# EAGLE library part MCP73871_CHARGEMANAGER (library DMF-AS3935_Project)
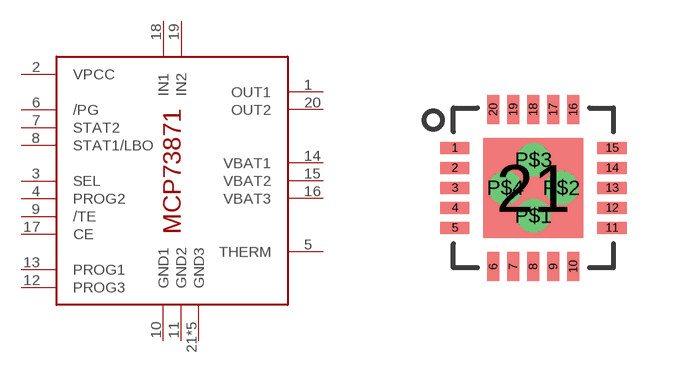
[diagram p3: symbol with the pads of QFN20_PAD; footprint QFN20_PAD]

Designator prefix U

## MCP73871_CHARGEMANAGER  [QFN20_PAD]
1  OUT1  out
2  VPCC  in
3  SEL  in
4  PROG2  in
5  THERM  in
6  /PG  out
7  STAT2  out
8  STAT1/LBO  out
9  /TE  in
10  GND1  pwr
11  GND2  pwr
12  PROG3  in
13  PROG1  in
14  VBAT1  out
15  VBAT2  out
16  VBAT3  out
17  CE  in
18  IN1  in
19  IN2  in
20  OUT2  out
21  GND3  pwr
P$1  GND3  pwr
P$2  GND3  pwr
P$3  GND3  pwr
P$4  GND3  pwr

## Footprint QFN20_PAD (pad centres in mm)
smd 0.73 x 0.3: 1 -1.965,1; 2 -1.965,0.5; 3 -1.965,0; 4 -1.965,-0.5; 5 -1.965,-1; 11 1.965,-1; 12 1.965,-0.5; 13 1.965,0; 14 1.965,0.5; 15 1.965,1
smd 0.3 x 0.73: 6 -1,-1.965; 7 -0.5,-1.965; 8 0,-1.965; 9 0.5,-1.965; 10 1,-1.965; 16 1,1.965; 17 0.5,1.965; 18 0,1.965; 19 -0.5,1.965; 20 -1,1.965
smd 2.5 x 2.5: 21 0,0
drill 0.33 pad 0.559: P$1 0,-0.7; P$2 0.7,0; P$3 0,0.7; P$4 -0.7,0